# Altium schematic symbol library IRLL2705TRPBF.SchLib: 1 symbol
Pins are listed as number, name and electrical type; pins without a type are passive.

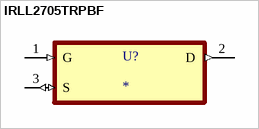
[diagram p0: symbol IRLL2705TRPBF]

## IRLL2705TRPBF
designator U?
MP: IRLL2705TRPBF; MF: {'manufacturer': u'Infineon Technologies'}; Value: *; Package: None; Price: None; Availability: Unavailable
footprint SOT127P700X180-6N
pins: 1 G (in), 2 D (out), 3 S (io)